# Altium footprint library Orient, AMC0802BR-B-B6WTDW-I2C.PcbLib: 1 footprints
Each footprint in its own frame and in the unit in brackets; x right, y up, seen from the top. Pads: shape width x height; smd on the part's side, far side on the other; paste and mask are expansions set on the pad; w line width, h text height; cw(c..) or ccw(c..) is an arc to the next point about the centre after c.
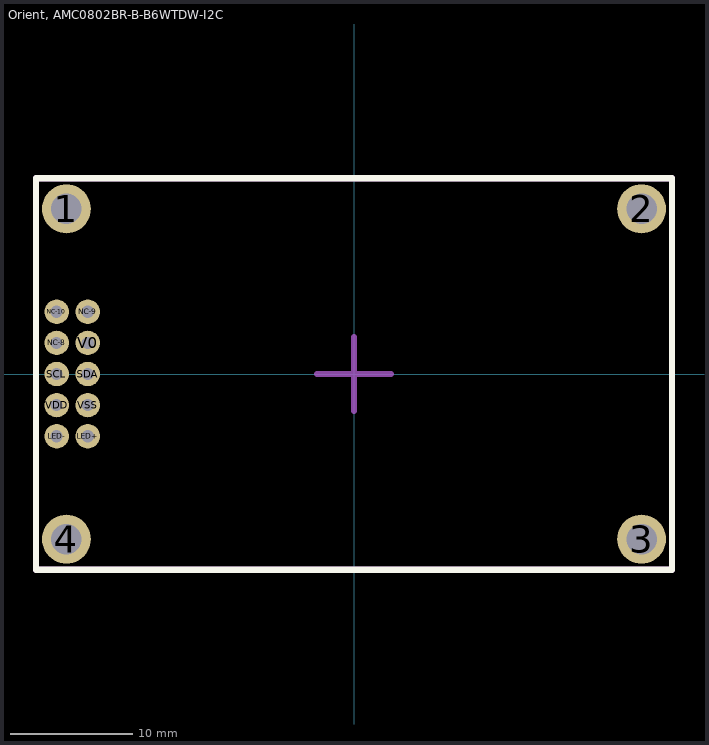
[diagram p0: the footprint, top view; thin cyan lines are the x and y axes]

## Orient, AMC0802BR-B-B6WTDW-I2C [mm] "Orient, AMC0802BR-B-B6WTDW-I2C"
height 14
pads (14):
  round 4 hole 2.5 mask+0.05: 1(-23.5,13.5) 2(23.5,13.5) 3(23.5,-13.5) 4(-23.5,-13.5)
  round 2 hole 1 mask+0.05: LED+(-21.76,-5.08) LED-(-24.3,-5.08) NC-8(-24.3,2.54) NC-9(-21.76,5.08) NC-10(-24.3,5.08) SCL(-24.3,0) SDA(-21.76,0) V0(-21.76,2.54) VDD(-24.3,-2.54) VSS(-21.76,-2.54)
Top Overlay:
  lines w0.5: -26,-16 -26,16 26,16 26,-16 -26,-16
Top Assembly:
  lines w0.5: -26,-16 -26,16 26,16 26,-16 -26,-16
Top Designator:
  text ".Designator" at -10,-13.061 h5
Top Component Center:
  lines w0.5: -3,0 3,0 ; 0,-3 0,3
3D body "Newhaven, NHD-0208BZ-RN-GBW.step": height 9.5, standoff 0.3, extent -29,-16 29,16